# Altium footprint library HY.PcbLib: 7 footprints
Each footprint in its own frame and in the unit in brackets; x right, y up, seen from the top. Pads: shape width x height; smd on the part's side, far side on the other; paste and mask are expansions set on the pad; w line width, h text height; cw(c..) or ccw(c..) is an arc to the next point about the centre after c.
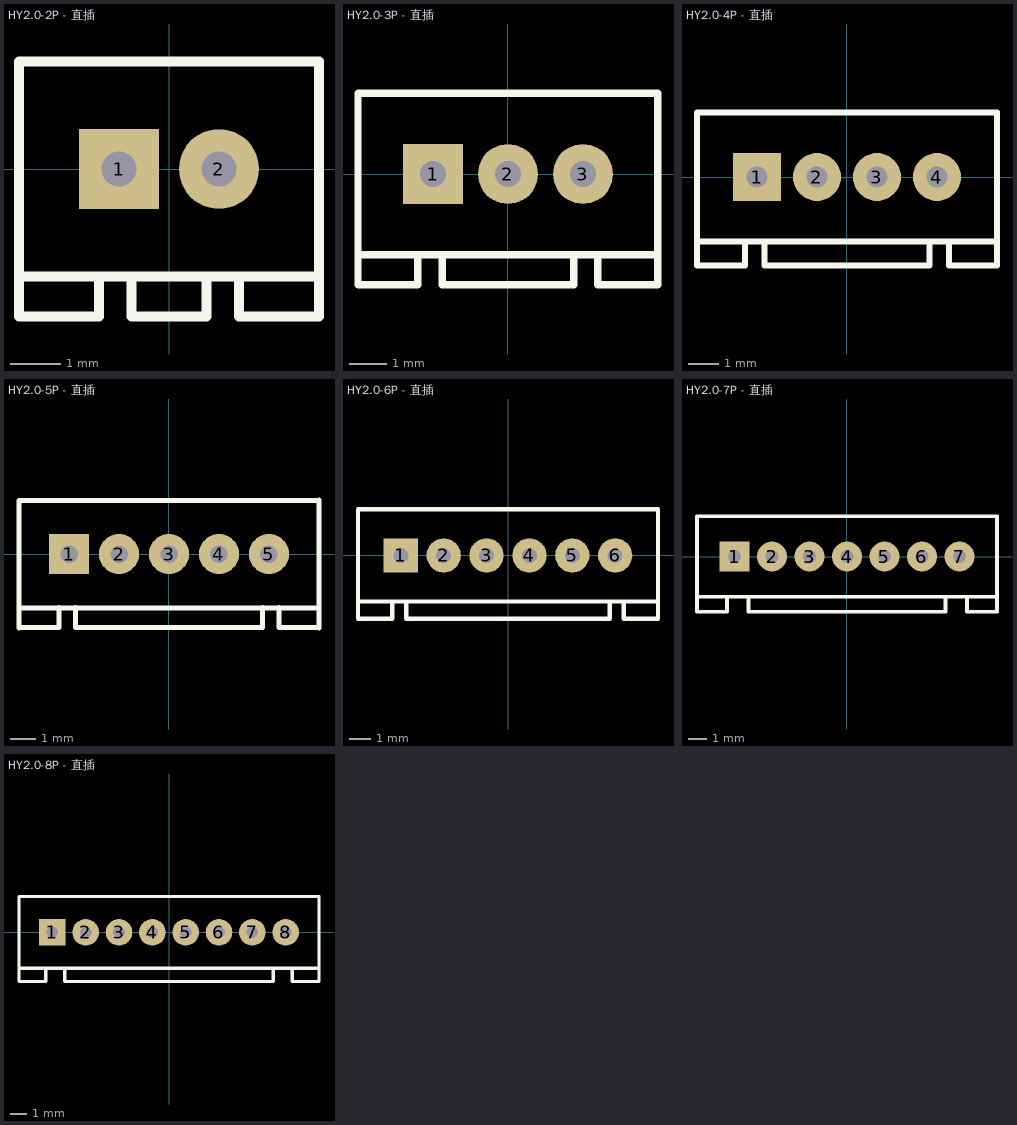
[diagram p0: the footprints below, top view; thin cyan lines are the x and y axes]

## HY2.0-2P - 直插 [mm]
height 7.8
pads (2):
  rect 1.6x1.6 hole 0.7: 1(-1,0)
  round 1.6 hole 0.7: 2(1,0)
Top Overlay:
  lines w0.2: -3,-2.15 3,-2.15 ; -1.4,-2.15 -1.4,-2.95 -3,-2.95 -3,2.15 3,2.15 ; -0.75,-2.15 -0.75,-2.95 0.75,-2.95 0.75,-2.15 ; 1.4,-2.15 1.4,-2.95 3,-2.95 3,2.15 ; 3,2.15 ccw(c3,2.15) 3,2.15
3D body "hy2_0_2p.stp": height 8, standoff -3.2, extent -3,-3.05 3,2.05

## HY2.0-3P - 直插 [mm]
height 7.8
pads (3):
  rect 1.6x1.6 hole 0.7: 1(-2,0)
  round 1.6 hole 0.7: 2(0,0) 3(2,0)
Top Overlay:
  lines w0.2: -4,-2.15 4,-2.15 ; -2.4,-2.15 -2.4,-2.95 -4,-2.95 -4,2.15 4,2.15 ; -1.75,-2.15 -1.75,-2.95 1.75,-2.95 1.75,-2.15 ; 2.4,-2.15 2.4,-2.95 4,-2.95 4,2.15 ; 4,2.15 ccw(c4,2.15) 4,2.15
3D body "hy2_0_3p.stp": height 8, standoff -3.2, extent -4,-3.05 4,2.05

## HY2.0-4P - 直插 [mm]
height 7.8
pads (4):
  rect 1.6x1.6 hole 0.7: 1(-3,0)
  round 1.6 hole 0.7: 2(-1,0) 3(1,0) 4(3,0)
Top Overlay:
  lines w0.2: -5,-2.15 5,-2.15 ; -3.4,-2.15 -3.4,-2.95 -5,-2.95 -5,2.15 5,2.15 ; -2.75,-2.15 -2.75,-2.95 2.75,-2.95 2.75,-2.15 ; 3.4,-2.15 3.4,-2.95 5,-2.95 5,2.15 ; 5,2.15 ccw(c5,2.15) 5,2.15
3D body "hy2_0_4p.stp": height 8, standoff -3.2, extent -5,-3.05 5,2.05

## HY2.0-5P - 直插 [mm]
height 7.8
pads (5):
  rect 1.6x1.6 hole 0.7: 1(-4,0)
  round 1.6 hole 0.7: 2(-2,0) 3(0,0) 4(2,0) 5(4,0)
Top Overlay:
  lines w0.1: -5,-2.15 ccw(c-5,-2.15) -5,-2.15
  lines w0.2: -6,-2.15 6,-2.15 ; -4.4,-2.15 -4.4,-2.95 -6,-2.95 -6,2.15 6,2.15 ; -3.75,-2.15 -3.75,-2.95 3.75,-2.95 3.75,-2.15 ; 4.4,-2.15 4.4,-2.95 6,-2.95 6,2.15 ; 6,2.15 ccw(c6,2.15) 6,2.15
3D body "hy2_0_5p.stp": height 8, standoff -3.2, extent -6,-3.042 6,2.058

## HY2.0-6P - 直插 [mm]
height 7.8
pads (6):
  rect 1.6x1.6 hole 0.7: 1(-5,0)
  round 1.6 hole 0.7: 2(-3,0) 3(-1,0) 4(1,0) 5(3,0) 6(5,0)
Top Overlay:
  lines w0.1: -4,-2.15 ccw(c-4,-2.15) -4,-2.15
  lines w0.2: -7,-2.15 7,-2.15 ; -5.4,-2.15 -5.4,-2.95 -7,-2.95 -7,2.15 7,2.15 ; -4.75,-2.15 -4.75,-2.95 4.75,-2.95 4.75,-2.15 ; 5.4,-2.15 5.4,-2.95 7,-2.95 7,2.15 ; 7,2.15 ccw(c7,2.15) 7,2.15
3D body "hy2_0_6p.stp": height 8, standoff -3.2, extent -7,-3.05 7,2.05
3D body: height 0.25, standoff 0, extent -4.1,1.3 -4.1,1.3

## HY2.0-7P - 直插 [mm]
height 7.8
pads (7):
  rect 1.6x1.6 hole 0.7: 1(-6,0)
  round 1.6 hole 0.7: 2(-4,0) 3(-2,0) 4(0,0) 5(2,0) 6(4,0) 7(6,0)
Top Overlay:
  lines w0.1: -5,-2.15 ccw(c-5,-2.15) -5,-2.15
  lines w0.2: -8,-2.15 8,-2.15 ; -6.4,-2.15 -6.4,-2.95 -8,-2.95 -8,2.15 8,2.15 ; -5.25,-2.15 -5.25,-2.95 5.25,-2.95 5.25,-2.15 ; 6.4,-2.15 6.4,-2.95 8,-2.95 8,2.15 ; 8,2.15 ccw(c8,2.15) 8,2.15
3D body "hy2_0_7p.stp": height 8, standoff -3.2, extent -8,-3.05 8,2.05

## HY2.0-8P - 直插 [mm]
height 7.8
pads (8):
  rect 1.6x1.6 hole 0.7: 1(-7,0)
  round 1.6 hole 0.7: 2(-5,0) 3(-3,0) 4(-1,0) 5(1,0) 6(3,0) 7(5,0) 8(7,0)
Top Overlay:
  lines w0.2: -9,-2.15 9,-2.15 ; -7.4,-2.15 -7.4,-2.95 -9,-2.95 -9,2.15 9,2.15 ; -6.25,-2.15 -6.25,-2.95 6.25,-2.95 6.25,-2.15 ; 7.4,-2.15 7.4,-2.95 9,-2.95 9,2.15 ; 9,2.15 ccw(c9,2.15) 9,2.15
3D body "hy2_0_8p.stp": height 8, standoff -3.2, extent -9,-2.95 9,2.15